# EAGLE library part ATSAMD11D14A-MNT (library pimoroni-ics)
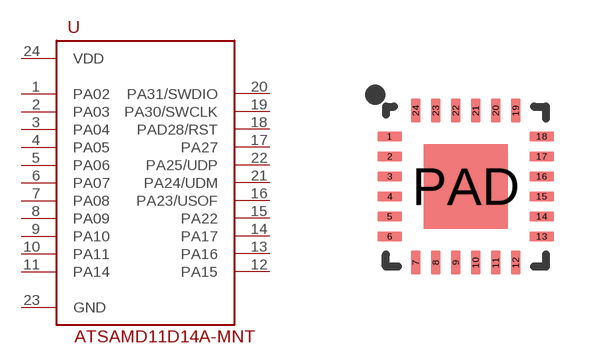
[diagram p85: symbol with the pads of QFN-24; footprint QFN-24]

Designator prefix -

## ATSAMD11D14A-MNT  [QFN-24]
1  PA02
2  PA03
3  PA04
4  PA05
5  PA06
6  PA07
7  PA08
8  PA09
9  PA10
10  PA11
11  PA14
12  PA15
13  PA16
14  PA17
15  PA22
16  PA23/USOF
17  PA27
18  PAD28/RST
19  PA30/SWCLK
20  PA31/SWDIO
21  PA24/UDM
22  PA25/UDP
23  GND
24  VDD

## Footprint QFN-24 (pad centres in mm)
smd 0.6 x 0.24: 1 -1.9,1.25; 2 -1.9,0.75; 3 -1.9,0.25; 4 -1.9,-0.25; 5 -1.9,-0.75; 6 -1.9,-1.25; 13 1.9,-1.25; 14 1.9,-0.75; 15 1.9,-0.25; 16 1.9,0.25; 17 1.9,0.75; 18 1.9,1.25
smd 0.24 x 0.6: 7 -1.25,-1.9; 8 -0.75,-1.9; 9 -0.25,-1.9; 10 0.25,-1.9; 11 0.75,-1.9; 12 1.25,-1.9; 19 1.25,1.9; 20 0.75,1.9; 21 0.25,1.9; 22 -0.25,1.9; 23 -0.75,1.9; 24 -1.25,1.9
smd 2.1 x 2.1: PAD 0,0